# EAGLE library part ATTINY2313A (library library)
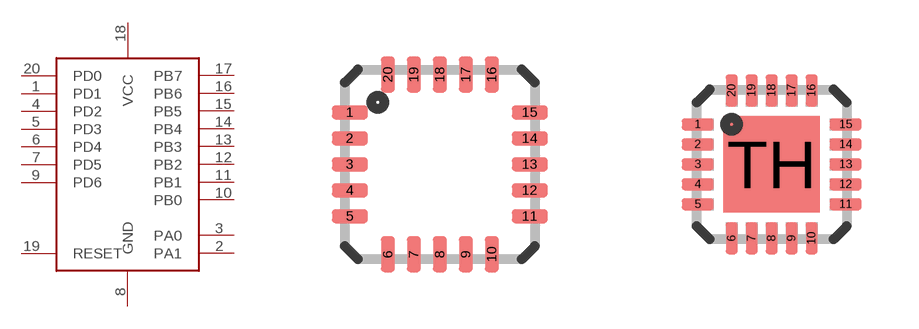
[diagram p2: symbol with the pads of MLF20; footprints MLF20, MLF20-4X4]

Designator prefix U

## ATTINY2313A  [MLF20]
1  PD1
2  PA1
3  PA0
4  PD2
5  PD3
6  PD4
7  PD5
8  GND
9  PD6
10  PB0
11  PB1
12  PB2
13  PB3
14  PB4
15  PB5
16  PB6
17  PB7
18  VCC
19  RESET
20  PD0

## ATTINY2313AMLF20-4X4  [MLF20-4X4]
1  PD1
2  PA1
3  PA0
4  PD2
5  PD3
6  PD4
7  PD5
8  GND
9  PD6
10  PB0
11  PB1
12  PB2
13  PB3
14  PB4
15  PB5
16  PB6
17  PB7
18  VCC
19  RESET
20  PD0
TH  GND

## ATTINY2313AQFN20-3X3  [QFN20-.45MMPITCH]
1  PD1
2  PA1
3  PA0
4  PD2
5  PD3
6  PD4
7  PD5
8  GND
9  PD6
10  PB0
11  PB1
12  PB2
13  PB3
14  PB4
15  PB5
16  PB6
17  PB7
18  VCC
19  RESET
20  PD0
21  GND

## Footprint MLF20 (pad centres in mm)
HP-VFQFP-N20 Micro Lead Frame package (MLF)
smd 0.9 x 0.35: 1 -2.25,1.3; 2 -2.25,0.65; 3 -2.25,0; 4 -2.25,-0.65; 5 -2.25,-1.3; 11 2.25,-1.3; 12 2.25,-0.65; 13 2.25,0; 14 2.25,0.65; 15 2.25,1.3
smd 0.35 x 0.9: 6 -1.3,-2.25; 7 -0.65,-2.25; 8 0,-2.25; 9 0.65,-2.25; 10 1.3,-2.25; 16 1.3,2.25; 17 0.65,2.25; 18 0,2.25; 19 -0.65,2.25; 20 -1.3,2.25

## Footprint MLF20-4X4 (pad centres in mm)
20M1 20-pad, 4 x 4 x 0.8 mm Body Lead Pitch 0.50 mm, 2.6 mm Exposed Pad, Micro Lead Frame Package (MLF) Source: Data sheet <http://www.atmel.com/Images/doc2543.pdf>
smd 0.8 x 0.3: 1 -1.85,1; 2 -1.85,0.5; 3 -1.85,0; 4 -1.85,-0.5; 5 -1.85,-1; 11 1.85,-1; 12 1.85,-0.5; 13 1.85,0; 14 1.85,0.5; 15 1.85,1
smd 0.3 x 0.8: 6 -1,-1.85; 7 -0.5,-1.85; 8 0,-1.85; 9 0.5,-1.85; 10 1,-1.85; 16 1,1.85; 17 0.5,1.85; 18 0,1.85; 19 -0.5,1.85; 20 -1,1.85
smd 2.413 x 2.413: TH 0,0

## Footprint QFN20-.45MMPITCH (pad centres in mm)
smd 0.5 x 0.22: 1 -1.45,0.885; 5 -1.45,-0.885; 11 1.45,-0.885; 15 1.45,0.885
smd 0.6 x 0.22: 2 -1.4,0.435; 3 -1.4,0.015; 4 -1.4,-0.435; 12 1.4,-0.435; 13 1.4,0.015; 14 1.4,0.465
smd 0.22 x 0.5: 6 -0.885,-1.45; 10 0.885,-1.45; 16 0.885,1.45; 20 -0.885,1.45
smd 0.22 x 0.6: 7 -0.435,-1.4; 8 -0.015,-1.4; 9 0.435,-1.4; 17 0.435,1.4; 18 -0.015,1.4; 19 -0.465,1.4
smd 1.55 x 1.55: 21 0,0